# EAGLE library part W3J512M32K-XBX (library microsemi)
W3J512M32K-XBX edit this description Auto generated by make-symbol-device-package-bsdl.ulp Rev. 44 Source: W3J512M32K-XBX.txt
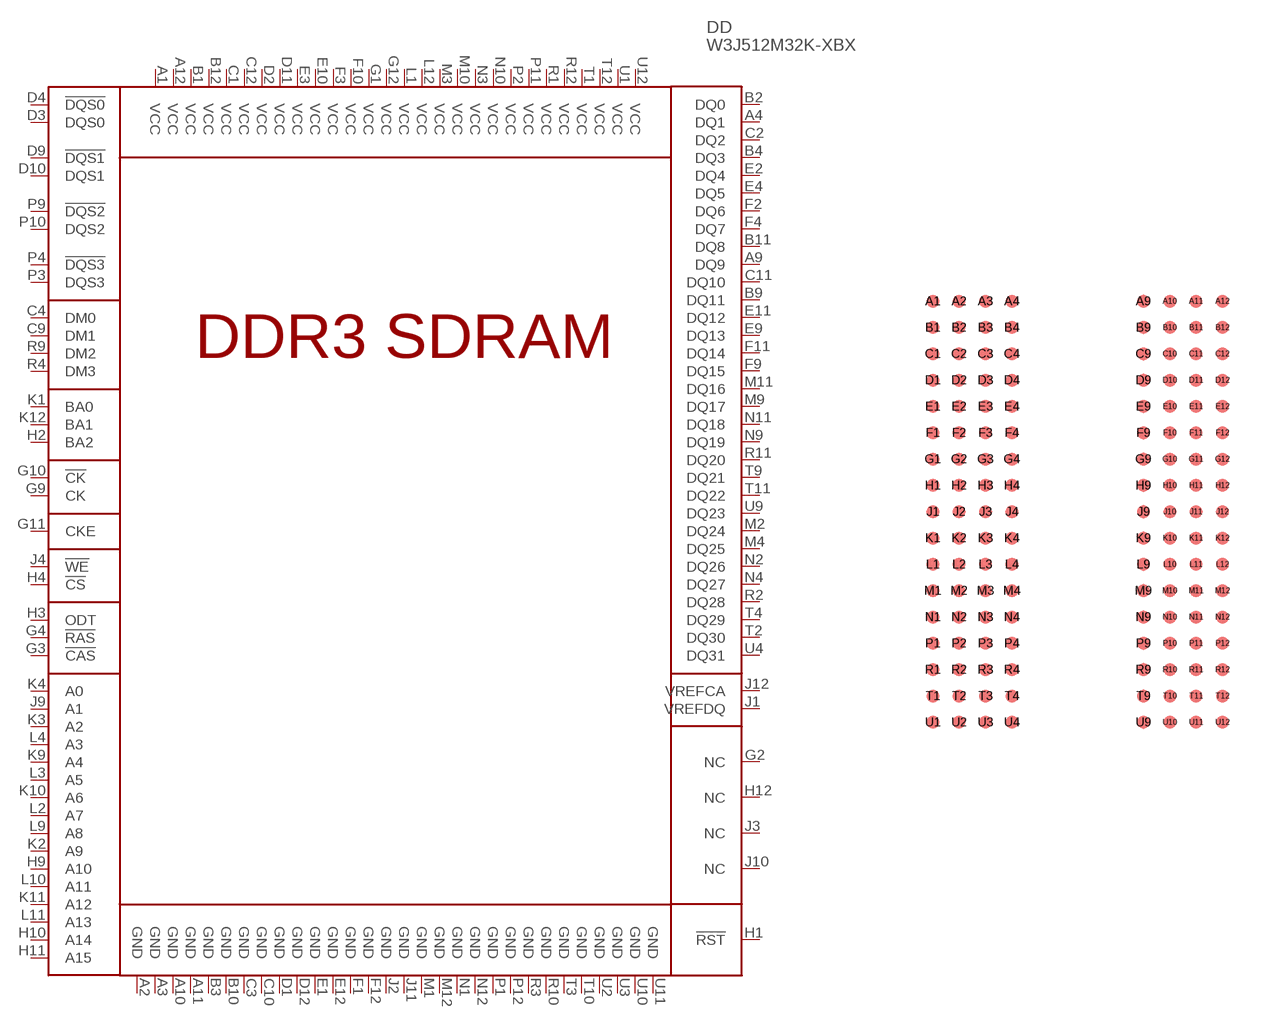
[diagram p0: symbol with the pads of PBGA136; footprint PBGA136]

Designator prefix DD

## W3J512M32K-XBX  [PBGA136]
A1  VCC  pwr
A2  GND  pwr
A3  GND  pwr
A4  DQ1
A9  DQ9
A10  GND  pwr
A11  GND  pwr
A12  VCC  pwr
B1  VCC  pwr
B2  DQ0
B3  GND  pwr
B4  DQ3
B9  DQ11
B10  GND  pwr
B11  DQ8
B12  VCC  pwr
C1  VCC  pwr
C2  DQ2
C3  GND  pwr
C4  DM0  in
C9  DM1  in
C10  GND  pwr
C11  DQ10
C12  VCC  pwr
D1  GND  pwr
D2  VCC  pwr
D3  DQS0
D4  !DQS0
D9  !DQS1
D10  DQS1
D11  VCC  pwr
D12  GND  pwr
E1  GND  pwr
E2  DQ4
E3  VCC  pwr
E4  DQ5
E9  DQ13
E10  VCC  pwr
E11  DQ12
E12  GND  pwr
F1  GND  pwr
F2  DQ6
F3  VCC  pwr
F4  DQ7
F9  DQ15
F10  VCC  pwr
F11  DQ14
F12  GND  pwr
G1  VCC  pwr
G2  NC  nc
G3  !CAS
G4  !RAS
G9  CK
G10  !CK
G11  CKE
G12  VCC  pwr
H1  !RST  in
H2  BA2
H3  ODT
H4  !CS  in
H9  A10  in
H10  A14  in
H11  A15  in
H12  NC  nc
J1  VREFDQ  pas
J2  GND  pwr
J3  NC  nc
J4  !WE  in
J9  A1  in
J10  NC  nc
J11  GND  pwr
J12  VREFCA  pas
K1  BA0
K2  A9  in
K3  A2  in
K4  A0  in
K9  A4  in
K10  A6  in
K11  A12  in
K12  BA1
L1  VCC  pwr
L2  A7  in
L3  A5  in
L4  A3  in
L9  A8  in
L10  A11  in
L11  A13  in
L12  VCC  pwr
M1  GND  pwr
M2  DQ24
M3  VCC
M4  DQ25
M9  DQ17
M10  VCC  pwr
M11  DQ16
M12  GND  pwr
N1  GND  pwr
N2  DQ26
N3  VCC  pwr
N4  DQ27
N9  DQ19
N10  VCC  pwr
N11  DQ18
N12  GND  pwr
P1  GND  pwr
P2  VCC  pwr
P3  DQS3
P4  !DQS3
P9  !DQS2
P10  DQS2
P11  VCC  pwr
P12  GND  pwr
R1  VCC  pwr
R2  DQ28
R3  GND  pwr
R4  DM3  in
R9  DM2  in
R10  GND  pwr
R11  DQ20
R12  VCC  pwr
T1  VCC  pwr
T2  DQ30
T3  GND  pwr
T4  DQ29
T9  DQ21
T10  GND  pwr
T11  DQ22
T12  VCC  pwr
U1  VCC  pwr
U2  GND  pwr
U3  GND  pwr
U4  DQ31
U9  DQ23
U10  GND  pwr
U11  GND  pwr
U12  VCC  pwr

## Footprint PBGA136 (pad centres in mm)
smd 0.4 x 0.4: A1 -4.4,6.4; A2 -3.6,6.4; A3 -2.8,6.4; A4 -2,6.4; A9 2,6.4; A10 2.8,6.4; A11 3.6,6.4; A12 4.4,6.4; B1 -4.4,5.6; B2 -3.6,5.6; B3 -2.8,5.6; B4 -2,5.6; B9 2,5.6; B10 2.8,5.6; B11 3.6,5.6; B12 4.4,5.6; C1 -4.4,4.8; C2 -3.6,4.8; C3 -2.8,4.8; C4 -2,4.8; C9 2,4.8; C10 2.8,4.8; C11 3.6,4.8; C12 4.4,4.8; D1 -4.4,4; D2 -3.6,4; D3 -2.8,4; D4 -2,4; D9 2,4; D10 2.8,4; D11 3.6,4; D12 4.4,4; E1 -4.4,3.2; E2 -3.6,3.2; E3 -2.8,3.2; E4 -2,3.2; E9 2,3.2; E10 2.8,3.2; E11 3.6,3.2; E12 4.4,3.2; F1 -4.4,2.4; F2 -3.6,2.4; F3 -2.8,2.4; F4 -2,2.4; F9 2,2.4; F10 2.8,2.4; F11 3.6,2.4; F12 4.4,2.4; G1 -4.4,1.6; G2 -3.6,1.6; G3 -2.8,1.6; G4 -2,1.6; G9 2,1.6; G10 2.8,1.6; G11 3.6,1.6; G12 4.4,1.6; H1 -4.4,0.8; H2 -3.6,0.8; H3 -2.8,0.8; H4 -2,0.8; H9 2,0.8; H10 2.8,0.8; H11 3.6,0.8; H12 4.4,0.8; J1 -4.4,0; J2 -3.6,0; J3 -2.8,0; J4 -2,0; J9 2,0; J10 2.8,0; J11 3.6,0; J12 4.4,0; K1 -4.4,-0.8; K2 -3.6,-0.8; K3 -2.8,-0.8; K4 -2,-0.8; K9 2,-0.8; K10 2.8,-0.8; K11 3.6,-0.8; K12 4.4,-0.8; L1 -4.4,-1.6; L2 -3.6,-1.6; L3 -2.8,-1.6; L4 -2,-1.6; L9 2,-1.6; L10 2.8,-1.6; L11 3.6,-1.6; L12 4.4,-1.6; M1 -4.4,-2.4; M2 -3.6,-2.4; M3 -2.8,-2.4; M4 -2,-2.4; M9 2,-2.4; M10 2.8,-2.4; M11 3.6,-2.4; M12 4.4,-2.4; N1 -4.4,-3.2; N2 -3.6,-3.2; N3 -2.8,-3.2; N4 -2,-3.2; N9 2,-3.2; N10 2.8,-3.2; N11 3.6,-3.2; N12 4.4,-3.2; P1 -4.4,-4; P2 -3.6,-4; P3 -2.8,-4; P4 -2,-4; P9 2,-4; P10 2.8,-4; P11 3.6,-4; P12 4.4,-4; R1 -4.4,-4.8; R2 -3.6,-4.8; R3 -2.8,-4.8; R4 -2,-4.8; R9 2,-4.8; R10 2.8,-4.8; R11 3.6,-4.8; R12 4.4,-4.8; T1 -4.4,-5.6; T2 -3.6,-5.6; T3 -2.8,-5.6; T4 -2,-5.6; T9 2,-5.6; T10 2.8,-5.6; T11 3.6,-5.6; T12 4.4,-5.6; U1 -4.4,-6.4; U2 -3.6,-6.4; U3 -2.8,-6.4; U4 -2,-6.4; U9 2,-6.4; U10 2.8,-6.4; U11 3.6,-6.4; U12 4.4,-6.4